# Altium integrated library SSW-104-02-T-D-RA.IntLib: 1 symbol
Pins are listed as number, name and electrical type; pins without a type are passive.

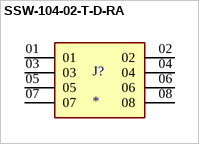
[diagram p0: symbol SSW-104-02-T-D-RA]

## SSW-104-02-T-D-RA
designator J?
MF: Samtec; MP: SSW-104-02-T-D-RA; Value: *; Price: None; Availability: Unavailable; Package: None
footprint SAMTEC_SSW-104-02-T-D-RA
pins: 01, 02, 03, 04, 05, 06, 07, 08